# EAGLE library part 34970A (library GPIB_epccs)
Agilent 34970A Data Acquisition/Switch Unit
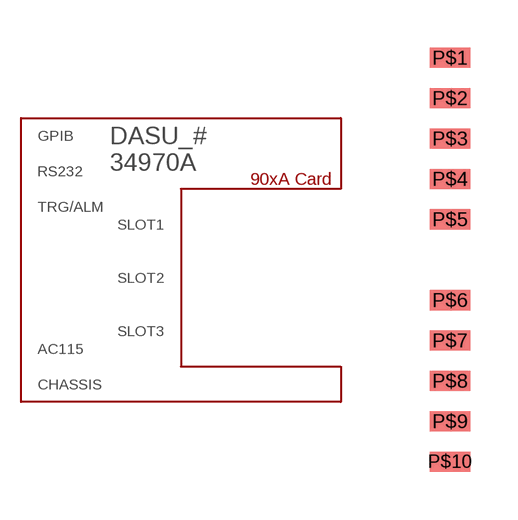
[diagram p6: symbol with the pads of POS10; footprint POS10]

Designator prefix DASU_#

## 34970A  [POS10]
P$1  AC115
P$2  CHASSIS
P$3  GPIB
P$4  RS232
P$5  SLOT1
P$6  SLOT2
P$7  SLOT3
P$8  TRG/ALM

## Footprint POS10 (pad centres in mm)
10 position
smd 1.27 x 0.635: P$1 0,6.35; P$2 0,5.08; P$3 0,3.81; P$4 0,2.54; P$5 0,1.27; P$6 0,-1.27; P$7 0,-2.54; P$8 0,-3.81; P$9 0,-5.08; P$10 0,-6.35